# Altium footprint library GN-1846-A-V2.PcbLib: 33 footprints (part 2 of 3)
Each footprint in its own frame and in the unit in brackets; x right, y up, seen from the top. Pads: shape width x height; smd on the part's side, far side on the other; paste and mask are expansions set on the pad; w line width, h text height; cw(c..) or ccw(c..) is an arc to the next point about the centre after c.
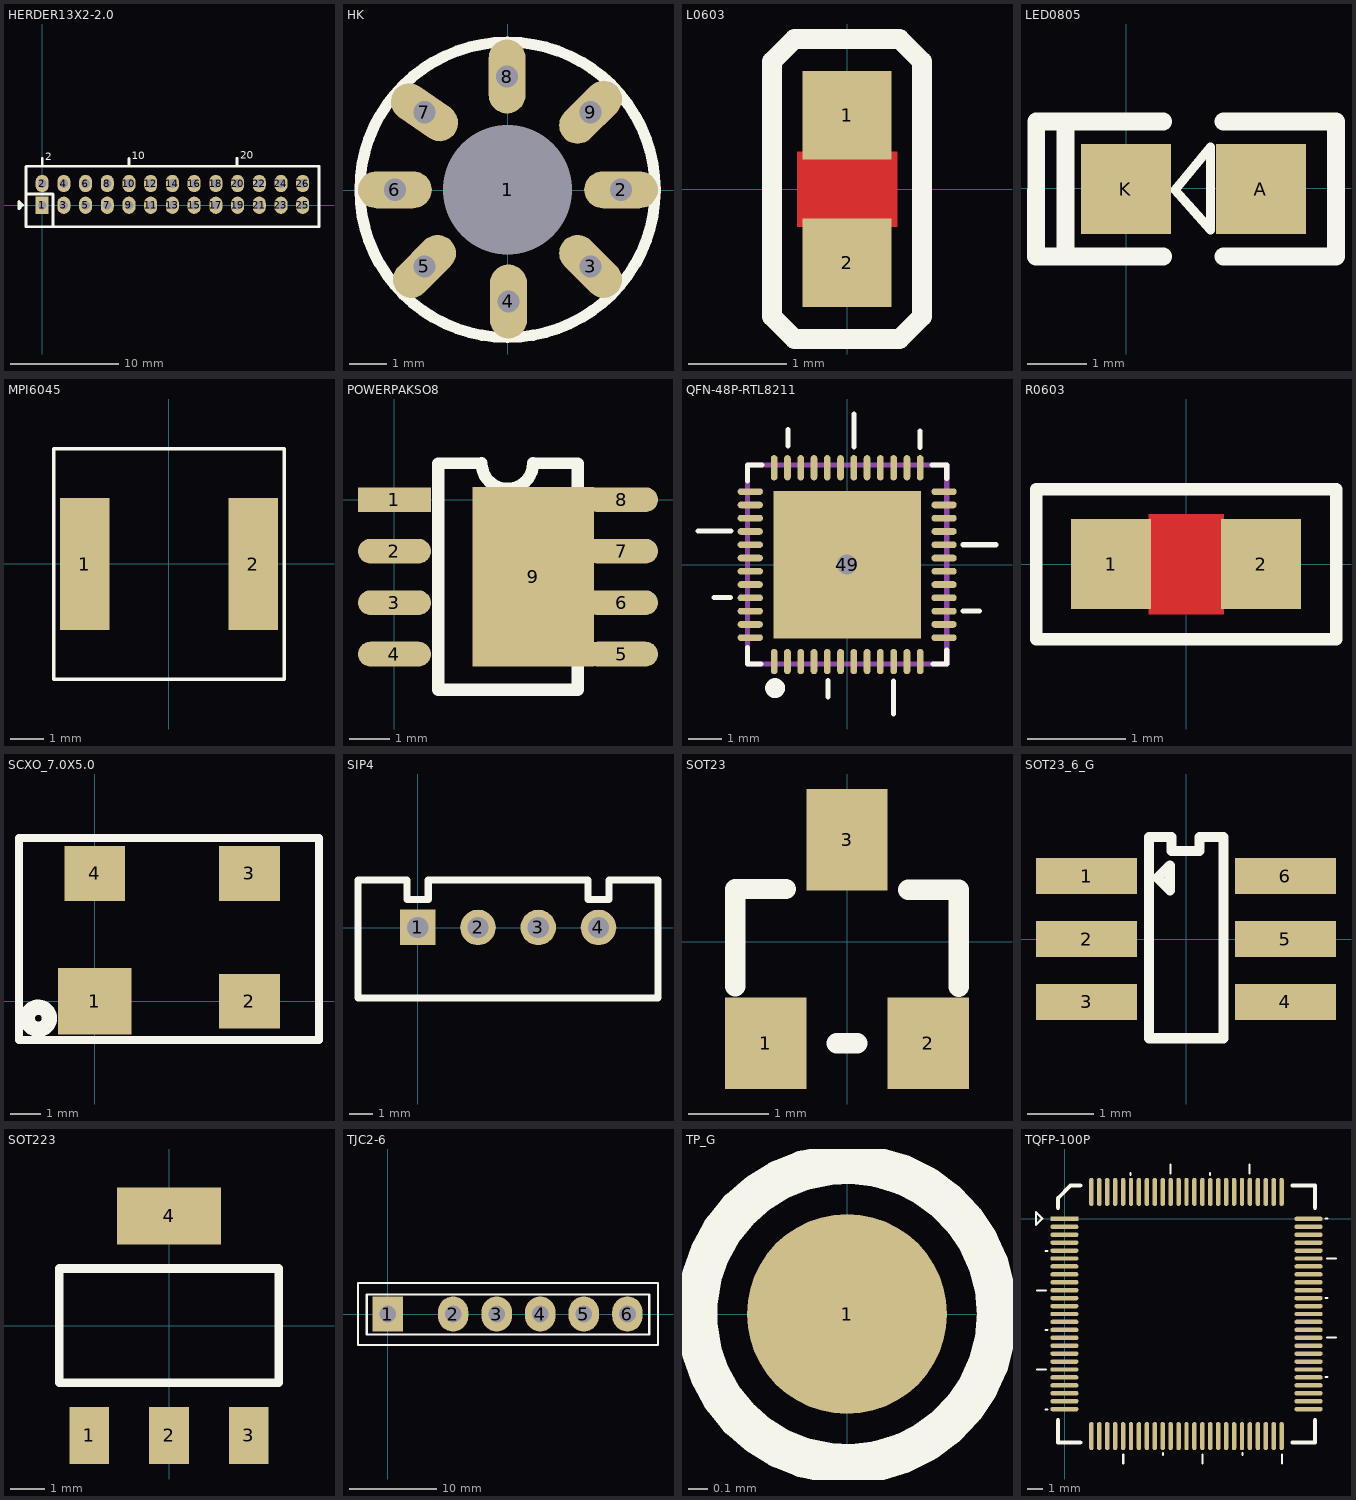
[diagram p1: the footprints below, top view; thin cyan lines are the x and y axes]

## HERDER13X2-2.0 [mm]
pads (26):
  rect 1.2x1.6 hole 0.8: 1(0,0)
  oval 1.2x1.6 hole 0.8: 2(0,2) 3(2,0) 4(2,2) 5(4,0) 6(4,2) 7(6,0) 8(6,2) 9(8,0) 10(8,2) 11(10,0) 12(10,2) 13(12,0) 14(12,2) 15(14,0) 16(14,2) 17(16,0) 18(16,2) 19(18,0) 20(18,2) 21(20,0) 22(20,2) 23(22,0) 24(22,2) 25(24,0) 26(24,2)
Top Overlay:
  lines w0.254: -2.132,-0.272 -2.132,0.338 -1.802,0.008 ; -2.132,0.008 -2.132,-0.323 -1.802,0.008 ; -2.081,-0.272 -1.802,0.008 ; -2.03,-0.172 -2.03,0.188 ; -1.929,-0.071 -1.929,0.082 ; -1.499,1.041 0.991,1.041 0.991,-1.956 ; -1.499,3.556 -1.499,-1.981 25.502,-1.981 25.502,3.581 -1.473,3.581 ; 0.002,3.637 0.002,4.323 ; 8.003,3.612 8.003,4.297 ; 17.96,3.637 17.96,4.323
  text "10" at 8.257,4.221 h0.7
  text "20" at 18.239,4.272 h0.7
  text "2" at 0.282,4.145 h0.7

## HK [mm]
pads (9):
  round 3 / inner round 1.524 / far side round 1.524 hole 3.5: 1(-0.012,0.007)
  oval 2x1 / inner round 1.524 / far side round 1.524 hole 0.6: 2(3.063,0.007) 6(-3.062,0.007)
  oval 2x1 / inner round 1.524 / far side round 1.524 hole 0.6 rot 135: 3(2.238,-2.068)
  oval 1x2 / inner round 1.524 / far side round 1.524 hole 0.6: 4(0.013,-3.018) 8(-0.025,3.075)
  oval 2x1 / inner round 1.524 / far side round 1.524 hole 0.6 rot 45: 5(-2.262,-2.068) 9(2.238,2.107)
  oval 2x1 / inner round 1.524 / far side round 1.524 hole 0.6 rot 145: 7(-2.262,2.107)
Top Overlay:
  circle w0.3: c-0.012,0.007 r4

## L0603 [mm]
pads (2):
  rect 0.9x0.9 smd: 1(0,0.75) 2(0,-0.75)
Top Layer:
  pour cut-out: -0.508,0.381 0.508,0.381 0.508,-0.381 -0.508,-0.381
Top Overlay:
  lines w0.203: -0.762,-1.295 -0.762,1.295 -0.533,1.524 0.533,1.524 0.762,1.295 0.762,-1.295 0.533,-1.524 -0.533,-1.524 -0.762,-1.295

## LED0805 [mil]
pads (2):
  rect 60x60 smd: A(89.68,-0.39) K(-0.32,-0.39)
Top Overlay:
  lines w6: 32.48,-0.98 56.1,27.56 56.1,-27.56 32.48,-0.98
  lines w11.81: 24.68,-45.39 -60.17,-45.39 -60.04,44.61 24.68,44.61 ; 64.68,-45.39 139.68,-45.39 139.68,44.61 64.68,44.61
  lines w12: -40.35,-40.63 -40.35,38.39

## MPI6045 [mm]
pads (2):
  rect 1.5x4 smd: 1(-2.538,-0.007) 2(2.562,-0.007)
Top Overlay:
  lines w0.102: -3.488,-3.507 -3.488,3.493 3.512,3.493 3.512,-3.507 -3.488,-3.507

## POWERPAKSO8 [mm]
pads (9):
  rect 1.8x0.61 smd: 1(0,0)
  oval 1.8x0.61 smd: 2(0,-1.27) 3(0,-2.54) 4(0,-3.81) 5(5.6,-3.81) 6(5.6,-2.54) 7(5.6,-1.27) 8(5.6,0)
  rect 3x4.425 smd: 9(3.425,-1.9)
Top Overlay:
  lines w0.3: 1.08,-4.69 1.08,0.89 2.15,0.9 ccw(c2.785,0.9) 3.42,0.9 4.52,0.89 4.52,-4.69 1.08,-4.69

## QFN-48P-RTL8211 [mil]
pads (49):
  oval 8x30 smd mask+2: 1(-86.61,-114.96) 2(-70.87,-114.96) 3(-55.12,-114.96) 4(-39.37,-114.96) 5(-23.62,-114.96) 6(-7.87,-114.96) 7(7.87,-114.96) 8(23.62,-114.96) 9(39.37,-114.96) 10(55.12,-114.96) 11(70.87,-114.96) 12(86.61,-114.96) 25(86.61,114.96) 26(70.87,114.96) 27(55.12,114.96) 28(39.37,114.96) 29(23.62,114.96) 30(7.87,114.96) 31(-7.87,114.96) 32(-23.62,114.96) 33(-39.37,114.96) 34(-55.12,114.96) 35(-70.87,114.96) 36(-86.61,114.96)
  oval 30x8 smd mask+2: 13(114.96,-86.61) 14(114.96,-70.87) 15(114.96,-55.12) 16(114.96,-39.37) 17(114.96,-23.62) 18(114.96,-7.87) 19(114.96,7.87) 20(114.96,23.62) 21(114.96,39.37) 22(114.96,55.12) 23(114.96,70.87) 24(114.96,86.61) 37(-114.96,86.61) 38(-114.96,70.87) 39(-114.96,55.12) 40(-114.96,39.37) 41(-114.96,23.62) 42(-114.96,7.87) 43(-114.96,-7.87) 44(-114.96,-23.62) 45(-114.96,-39.37) 46(-114.96,-55.12) 47(-114.96,-70.87) 48(-114.96,-86.61)
  rect 175x175 / inner round 60 / far side round 60 hole 23.62: 49(0,0)
Top Overlay:
  circle w11.81: c-85.43,-146.46 r5.9
  lines w6: -177.17,39.76 -137.8,39.76 ; -157.87,-38.98 -138.19,-38.98 ; -118.11,-98.43 -118.11,-118.11 -101.97,-118.11 ; -118.11,99.21 -118.11,118.11 -100.79,118.11 ; -70.08,140.55 -70.08,160.24 ; -22.83,-157.09 -22.83,-137.4 ; 8.27,139.37 8.27,178.74 ; 55.12,-177.17 55.12,-137.8 ; 86.22,138.98 86.22,158.66 ; 100.79,118.11 118.11,118.11 118.11,101.97 ; 101.97,-118.11 118.11,-118.11 118.11,-101.57 ; 137.4,-54.72 157.09,-54.72 ; 137.4,23.62 176.77,23.62
Mechanical 16:
  lines w6: -118.11,-118.11 118.11,-118.11 118.11,118.11 -118.11,118.11 -118.11,-118.11

## R0603 [mil]
pads (2):
  rect 32x36 smd: 1(-30,0) 2(30,0)
Top Layer:
  pour cut-out: -15,20 15,20 15,-20 -15,-20
Top Overlay:
  lines w5: -60,-30 -60,30 60,30 60,-30 -60,-30

## SCXO_7.0X5.0 [mm]
pads (4):
  rect 2.4x2.2 smd: 1(0.008,0.001)
  rect 2x1.8 smd: 2(5.088,0.001) 3(5.088,4.201) 4(0.008,4.201)
Top Overlay:
  circle w0.5: c-1.846,-0.558 r0.364
  lines w0.254: -2.481,-1.269 7.374,-1.269 7.374,5.36 -2.481,5.36 -2.481,5.259 -2.481,-1.269

## SIP4 [mm]
pads (4):
  rect 1.5x1.5 hole 0.9: 1(0.008,0.007)
  round 1.5 hole 0.9: 2(2.548,0.007) 3(5.088,0.007) 4(7.628,0.007)
Top Overlay:
  lines w0.3: -0.442,1.182 -0.442,2.002 -2.512,2.002 -2.512,-2.963 10.138,-2.963 10.138,2.002 8.072,2.002 8.072,1.182 7.193,1.182 ; -0.432,1.182 0.447,1.182 0.447,2.002 7.183,2.002 7.183,1.182

## SOT23 [mil]
pads (3):
  rect 40x45 smd: 1(-40,-50) 2(40,-50)
  rect 40x50 smd: 3(0,50)
Top Overlay:
  lines w10: -55,-21.93 -55,25.87 -30,25.87 ; -5,-50 5,-50 ; 30,25.51 55,25.51 55,-22.24

## SOT23_6_G [mil]
pads (6):
  rect 60x21.65 smd: 1(-59.06,37.4) 2(-59.06,0) 3(-59.06,-37.4) 4(59.06,-37.4) 5(59.06,0) 6(59.06,37.4)
Top Overlay:
  lines w6: -22.05,-58.93 22.22,-58.93 22.22,60.51 7.97,60.51 7.97,52.23 -8.65,52.23 -8.65,60.51 -22.05,60.51 -22.05,-58.93 ; -16.89,36.33 -9.47,28.91 -9.47,43.75 -16.89,36.33

## SOT223 [mil]
pads (4):
  rect 45x65 smd: 1(-91,-125) 2(0,-125) 3(91,-125)
  rect 118x65 smd: 4(0,125)
Top Overlay:
  lines w10: -125,-65 125,-65 125,65 -125,65 -125,-65

## TJC2-6 [mm]
pads (6):
  rect 3.5x4 hole 1.9: 1(0,0.007)
  oval 3.5x4 hole 1.9: 2(7.5,0.007) 3(12.5,0.007) 4(17.5,0.007) 5(22.5,0.007) 6(27.5,0.007)
Top Overlay:
  lines w0.254: -3.4,-3.549 31,-3.549 31,3.563 -3.4,3.563 -3.4,-3.549 ; -2.4,-2.36 -2.4,2.24 30,2.24 30,-2.36 -2.4,-2.36

## TP_G [mil]
pads (1):
  round 40 smd: 1(0,0)
Top Overlay:
  circle w8: c0,0 r30

## TQFP-100P [mil]
pads (100):
  rect 70x11 smd: 1(-0.73,-0.44)
  oval 70x11 smd: 2(-0.73,-20.12) 3(-0.73,-39.81) 4(-0.73,-59.49) 5(-0.73,-79.18) 6(-0.73,-98.86) 7(-0.73,-118.55) 8(-0.73,-138.23) 9(-0.73,-157.92) 10(-0.73,-177.6) 11(-0.73,-197.29) 12(-0.73,-216.97) 13(-0.73,-236.66) 14(-0.73,-256.34) 15(-0.73,-276.03) 16(-0.73,-295.71) 17(-0.73,-315.4) 18(-0.73,-335.08) 19(-0.73,-354.77) 20(-0.73,-374.45) 21(-0.73,-394.14) 22(-0.73,-413.82) 23(-0.73,-433.51) 24(-0.73,-453.19) 25(-0.73,-472.88) 51(605.57,-472.88) 52(605.57,-453.19) 53(605.57,-433.51) 54(605.57,-413.82) 55(605.57,-394.14) 56(605.57,-374.45) 57(605.57,-354.77) 58(605.57,-335.08) 59(605.57,-315.4) 60(605.57,-295.71) 61(605.57,-276.03) 62(605.57,-256.34) 63(605.57,-236.66) 64(605.57,-216.97) 65(605.57,-197.29) 66(605.57,-177.6) 67(605.57,-157.92) 68(605.57,-138.23) 69(605.57,-118.55) 70(605.57,-98.86) 71(605.57,-79.18) 72(605.57,-59.49) 73(605.57,-39.81) 74(605.57,-20.12) 75(605.57,-0.44)
  oval 11x70 smd: 26(66.2,-539.81) 27(85.89,-539.81) 28(105.57,-539.81) 29(125.26,-539.81) 30(144.94,-539.81) 31(164.63,-539.81) 32(184.31,-539.81) 33(204,-539.81) 34(223.68,-539.81) 35(243.37,-539.81) 36(263.05,-539.81) 37(282.74,-539.81) 38(302.42,-539.81) 39(322.11,-539.81) 40(341.79,-539.81) 41(361.48,-539.81) 42(381.16,-539.81) 43(400.85,-539.81) 44(420.53,-539.81) 45(440.22,-539.81) 46(459.9,-539.81) 47(479.59,-539.81) 48(499.27,-539.81) 49(518.96,-539.81) 50(538.64,-539.81) 76(538.64,66.49) 77(518.96,66.49) 78(499.27,66.49) 79(479.59,66.49) 80(459.9,66.49) 81(440.22,66.49) 82(420.53,66.49) 83(400.85,66.49) 84(381.16,66.49) 85(361.48,66.49) 86(341.79,66.49) 87(322.11,66.49) 88(302.42,66.49) 89(282.74,66.49) 90(263.05,66.49) 91(243.37,66.49) 92(223.68,66.49) 93(204,66.49) 94(184.31,66.49) 95(164.63,66.49) 96(144.94,66.49) 97(125.26,66.49) 98(105.57,66.49) 99(85.89,66.49) 100(66.2,66.49)
Top Overlay:
  lines w5: -68.8,-374.91 -46.8,-374.91 ; -68.8,-178.06 -46.8,-178.06 ; -47.8,-473.76 -42.8,-473.76 ; -47.8,-276.91 -42.8,-276.91 ; -47.8,-80.06 -42.8,-80.06 ; 145.4,-607.89 145.4,-585.89 ; 163.75,108.57 163.75,113.57 ; 244.25,-586.89 244.25,-581.89 ; 262.6,112.57 262.6,134.57 ; 342.25,-607.89 342.25,-585.89 ; 360.6,108.57 360.6,113.57 ; 441.1,-586.89 441.1,-581.89 ; 459.45,112.57 459.45,134.57 ; 539.1,-607.89 539.1,-585.89 ; 647.65,-393.26 652.65,-393.26 ; 647.65,-196.41 652.65,-196.41 ; 647.65,0.44 652.65,0.44 ; 651.65,-295.26 673.65,-295.26 ; 651.65,-98.41 673.65,-98.41 ; -71.22,-15.55 -71.22,-8.55 -71.22,16.45 -55.22,0.45 -71.22,-15.55
  lines w10: -16.47,-500.44 -16.47,-555.56 38.64,-555.56 ; -16.47,27.12 -16.47,50.74 15.02,82.24 38.64,82.24 ; 566.2,-555.56 621.32,-555.56 621.32,-500.44 ; 566.2,82.24 621.32,82.24 621.32,27.12